# EAGLE library part ADG3304 (library lib_stankus)
Analog Devices ADG3304 level shifter Farnell #1078228
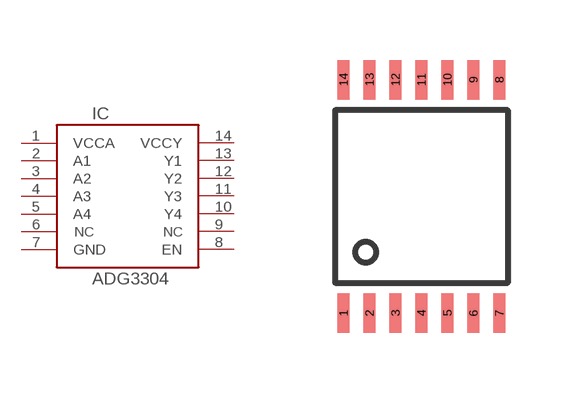
[diagram p46: symbol with the pads of TSSOP14; footprint TSSOP14]

Designator prefix IC

## ADG3304-TSSOP14  [TSSOP14]
1  VCCA  pas
2  A1  pas
3  A2  pas
4  A3  pas
5  A4  pas
6  NC  pas
7  GND  pas
8  EN  pas
9  NC  pas
10  Y4  pas
11  Y3  pas
12  Y2  pas
13  Y1  pas
14  VCCY  pas

## Footprint TSSOP14 (pad centres in mm)
TSSOP14
smd 0.305 x 0.991: 1 -1.95,-2.921; 2 -1.3,-2.921; 3 -0.65,-2.921; 4 0,-2.921; 5 0.65,-2.921; 6 1.3,-2.921; 7 1.95,-2.921; 8 1.95,2.921; 9 1.3,2.921; 10 0.65,2.921; 11 0,2.921; 12 -0.65,2.921; 13 -1.3,2.921; 14 -1.95,2.921